# Altium footprint library Chip Footprints.PcbLib: 30 footprints (part 1 of 2)
Each footprint in its own frame and in the unit in brackets; x right, y up, seen from the top. Pads: shape width x height; smd on the part's side, far side on the other; paste and mask are expansions set on the pad; w line width, h text height; cw(c..) or ccw(c..) is an arc to the next point about the centre after c.
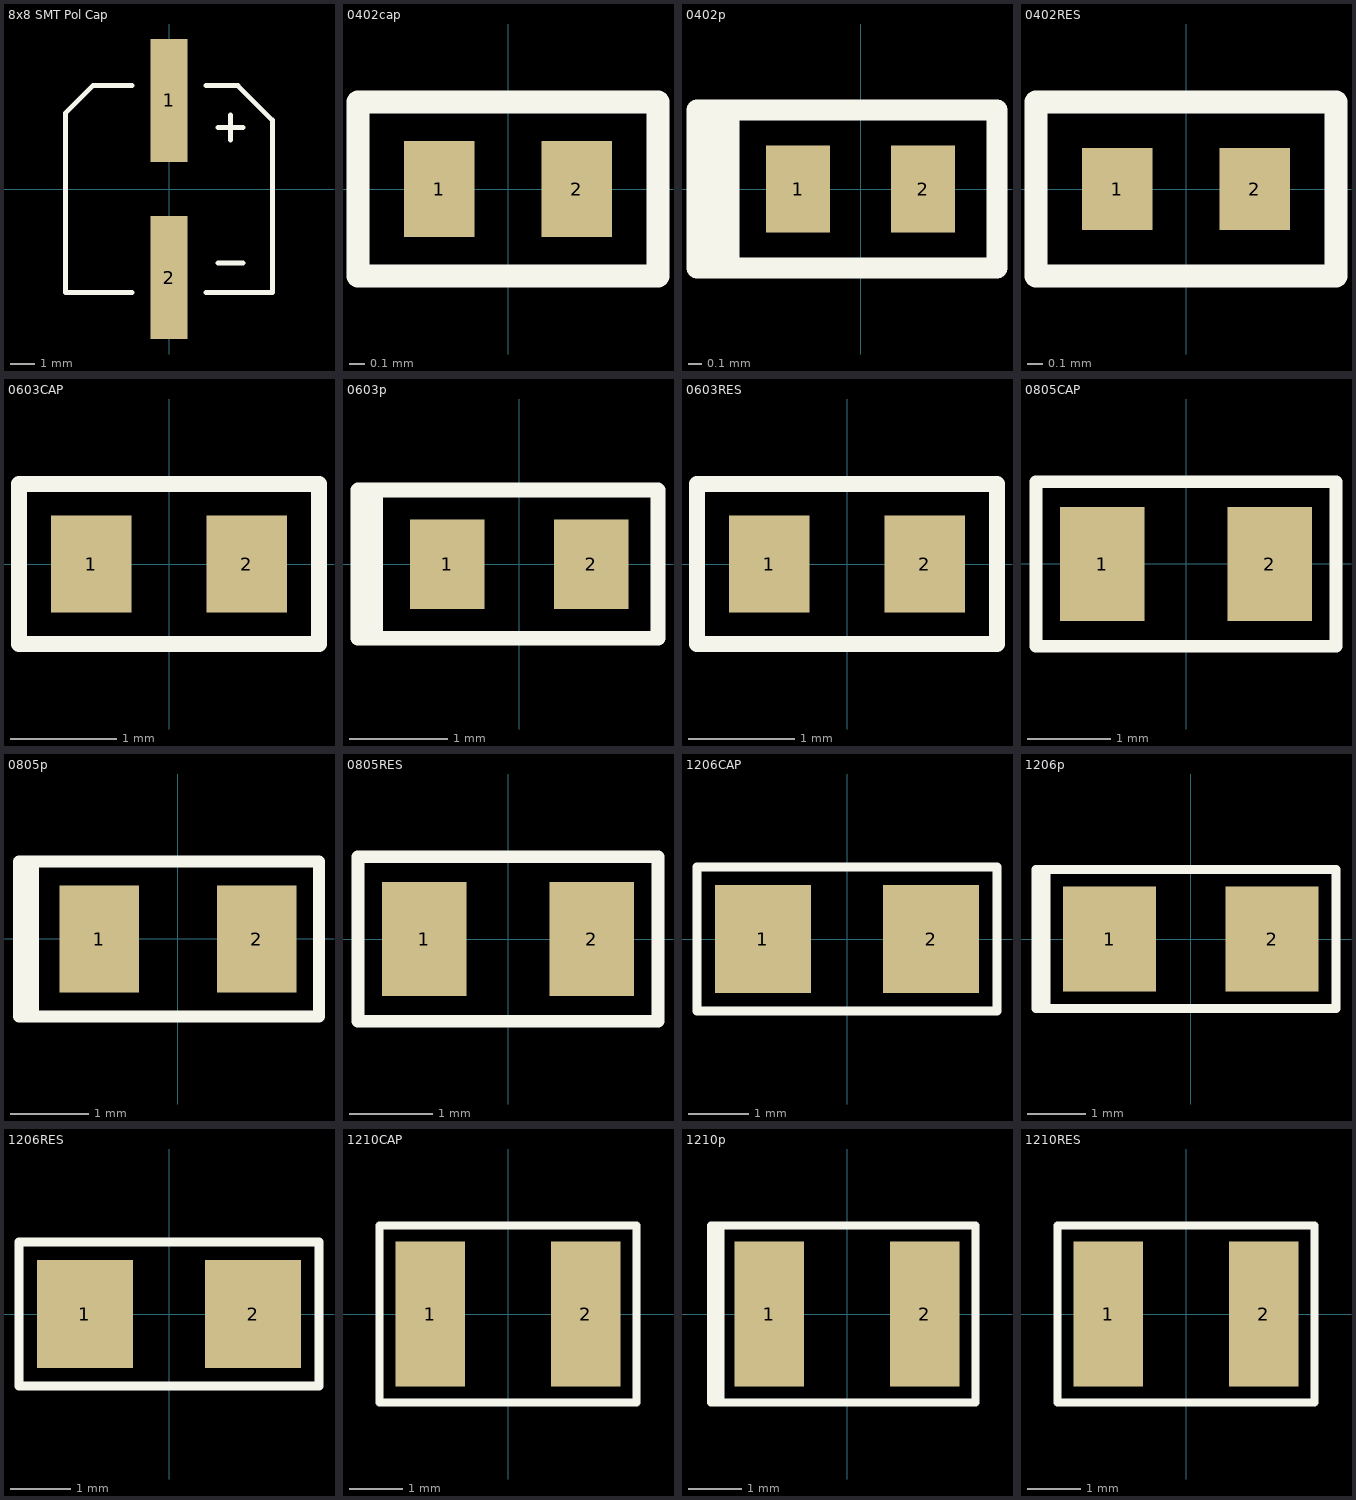
[diagram p0: the footprints below, top view; thin cyan lines are the x and y axes]

## 8x8 SMT Pol Cap [mm]
pads (2):
  rect 1.5x5 smd: 1(0,3.6) 2(0,-3.6)
Top Overlay:
  lines w0.203: -1.5,-4.2 -4.2,-4.2 -4.2,3.1 -3.1,4.2 -1.5,4.2 ; 1.5,-4.2 4.2,-4.2 4.2,2.8 2.8,4.2 1.5,4.2 ; 2,-3 3,-3 ; 2,2.5 3,2.5 ; 2.5,2 2.5,3

## 0402cap [mm] "Chip Capacitor; Body 1.0 x 0.5 mm (LxW typ)"
height 0.55
pads (2):
  rect 0.47x0.64 smd: 1(-0.458,0) 2(0.458,0)
Top Overlay:
  lines w0.152: -1,-0.58 1,-0.58 1,0.58 -1,0.58 -1,-0.58
3D body "CAPACITOR 0402.step": height 0.2, standoff 0, extent -0.5,-0.3 0.5,0.3
3D body: height 0, standoff 0, extent -1,-0.58 1,0.58

## 0402p [mm] "Chip Capacitor; Body 1.0 x 0.5 mm (LxW typ) polarized"
height 0.55
pads (2):
  rect 0.47x0.64 smd: 1(-0.458,0) 2(0.458,0)
Top Overlay:
  rectangle: -1.2,-0.58 -0.889,0.508
  lines w0.152: -1.2,-0.58 1,-0.58 1,0.58 -1.2,0.58 -1.2,-0.58
3D body: height 0, standoff 0, extent -1,-0.58 1,0.58
3D body "CAPACITOR 0402.step": height 0.2, standoff 0, extent -0.5,-0.3 0.5,0.3

## 0402RES [mm] "Chip Resistor; Body 1.0 x 0.5 mm (LxW typ)"
height 0.4
pads (2):
  rect 0.47x0.549 smd: 1(-0.458,0) 2(0.458,0)
Top Overlay:
  lines w0.152: -1,-0.58 1,-0.58 1,0.58 -1,0.58 -1,-0.58
3D body "R0402.step": height 0.27, standoff 0, extent -0.5,-0.251 0.5,0.251
3D body: height 0, standoff 0, extent -1,-0.58 1,0.58

## 0603CAP [mil] "Chip Capacitor; Body 1.6 x 0.8 mm (LxW typ)"
height 34.25
pads (2):
  rect 30x35.98 smd: 1(-29,0) 2(29,0)
Top Overlay:
  lines w6: -55.83,-29.84 -55.83,29.84 55.83,29.84 55.83,-29.84 -55.83,-29.84
3D body: height 0, standoff 0, extent -55.83,-29.84 55.83,29.84
3D body "CAPACITOR 0603.step": height 11.89, standoff 0, extent -31.49,-15.74 31.5,15.75

## 0603p [mil] "Chip Capacitor; Body 1.6 x 0.8 mm (LxW typ) polarized"
height 34.25
pads (2):
  rect 30x35.98 smd: 1(-29,0) 2(29,0)
Top Overlay:
  rectangle: -65,-29.84 -55,30
  lines w6: -65,-29.84 -65,29.84 55.83,29.84 55.83,-29.84 -65,-29.84
3D body: height 0, standoff 0, extent -55.83,-29.84 55.83,29.84
3D body "CAPACITOR 0603.step": height 11.89, standoff 0, extent -31.49,-15.74 31.5,15.75

## 0603RES [mil] "Chip Resistor; Body 1.6 x 0.8 mm (LxW typ)"
height 24.02
pads (2):
  rect 30x35.98 smd: 1(-29,0) 2(29,0)
Top Overlay:
  lines w6: -55.83,-29.84 -55.83,29.84 55.83,29.84 55.83,-29.84 -55.83,-29.84
3D body "R0603.step": height 14.72, standoff 0, extent -31.5,-15.79 31.5,15.79
3D body: height 0, standoff 0, extent -55.83,-29.84 55.83,29.84

## 0805CAP [mil] "Chip Capacitor; Body 2.0 x 1.2 mm (LxW typ)"
height 51.18
pads (2):
  rect 40x54 smd: 1(-39.6,0) 2(39.6,0)
Top Overlay:
  lines w6: -71,-39 -71,39 71,39 71,-39 -71,-39
3D body: height 0, standoff 0, extent -71,-39 71,39
3D body "CAPACITOR 0805.step": height 30.79, standoff 0, extent -39.37,-24.6 39.37,24.61

## 0805p [mil] "Chip Capacitor; Body 2.0 x 1.2 mm (LxW typ) polarized"
height 51.18
pads (2):
  rect 40x54 smd: 1(-39.6,0) 2(39.6,0)
Top Overlay:
  rectangle: -80,-39 -70,39
  lines w6: -80,-39 -80,39 71,39 71,-39 -80,-39
3D body: height 0, standoff 0, extent -71,-39 71,39
3D body "CAPACITOR 0805.step": height 30.79, standoff 0, extent -39.37,-24.6 39.37,24.61

## 0805RES [mil] "Chip Resistor Body 2.0 x 1.2 mm (LxW typ)"
height 25.98
pads (2):
  rect 40x54 smd: 1(-39.6,0) 2(39.6,0)
Top Overlay:
  lines w6: -71,-39 71,-39 71,39 -71,39 -71,-39
3D body: height 0, standoff 0, extent -71,-39 71,39
3D body "R0805.step": height 18.66, standoff 0, extent -39.37,-24.65 39.37,24.65

## 1206CAP [mm] "Chip Capacitor; Body 3.2 x 1.6 mm (LxW typ)"
height 1.5
pads (2):
  rect 1.6x1.8 smd: 1(-1.4,0) 2(1.4,0)
Top Overlay:
  lines w0.152: -2.5,-1.2 -2.5,1.2 2.5,1.2 2.5,-1.2 -2.5,-1.2
3D body "CAPACITOR 1206.step": height 1, standoff 0, extent -1.6,-0.8 1.6,0.8

## 1206p [mm] "Chip Capacitor; Body 3.2 x 1.6 mm (LxW typ) polarized"
height 1.5
pads (2):
  rect 1.6x1.8 smd: 1(-1.4,0) 2(1.4,0)
Top Overlay:
  rectangle: -2.667,-1.2 -2.413,1.2
  lines w0.152: -2.667,-1.2 -2.667,1.2 2.5,1.2 2.5,-1.2 -2.667,-1.2
3D body "CAPACITOR 1206.step": height 1, standoff 0, extent -1.6,-0.8 1.6,0.8

## 1206RES [mm] "Chip Resistor; Body 3.2 x 1.6 mm (LxW typ)"
height 1.5
pads (2):
  rect 1.6x1.8 smd: 1(-1.4,0) 2(1.4,0)
Top Overlay:
  lines w0.152: -2.5,-1.2 -2.5,1.2 2.5,1.2 2.5,-1.2 -2.5,-1.2
3D body "CAPACITOR 1206.step": height 1, standoff 0, extent -1.6,-0.8 1.6,0.8

## 1210CAP [mm] "Chip Capacitor; Body 3.2 x 2.5 mm (LxW typ)"
height 1.7
pads (2):
  rect 1.3x2.7 smd: 1(-1.45,0) 2(1.45,0)
Top Overlay:
  lines w0.152: -2.4,-1.65 2.4,-1.65 2.4,1.65 -2.4,1.65 -2.4,-1.65
3D body: height 2.2, standoff 0, extent -1.524,-1.27 -1.016,1.27
3D body: height 2.2, standoff 0, extent 1.016,-1.27 1.524,1.27
3D body: height 2.2, standoff 0, extent -1.016,-1.27 1.016,1.27

## 1210p [mm] "Chip Capacitor; Body 3.2 x 2.5 mm (LxW typ) polarized"
height 1.7
pads (2):
  rect 1.3x2.7 smd: 1(-1.45,0) 2(1.45,0)
Top Overlay:
  rectangle: -2.54,-1.65 -2.286,1.65
  lines w0.152: -2.54,-1.65 2.4,-1.65 2.4,1.65 -2.54,1.65 -2.54,-1.65
3D body: height 2.2, standoff 0, extent -1.524,-1.27 -1.016,1.27
3D body: height 2.2, standoff 0, extent 1.016,-1.27 1.524,1.27
3D body: height 2.2, standoff 0, extent -1.016,-1.27 1.016,1.27

## 1210RES [mm] "Chip Capacitor; Body 3.2 x 2.5 mm (LxW typ)"
height 0.61
pads (2):
  rect 1.3x2.7 smd: 1(-1.45,0) 2(1.45,0)
Top Overlay:
  lines w0.152: -2.4,-1.65 2.4,-1.65 2.4,1.65 -2.4,1.65 -2.4,-1.65
3D body: height 2.2, standoff 0, extent -1.524,-1.27 -1.016,1.27
3D body: height 2.2, standoff 0, extent 1.016,-1.27 1.524,1.27
3D body: height 2.2, standoff 0, extent -1.016,-1.27 1.016,1.27